# Altium schematic symbol library MA720.SchLib: 1 symbol
Pins are listed as number, name and electrical type; pins without a type are passive.

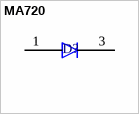
[diagram p0: symbol MA720]

## MA720
designator D?
MF: Taiwan Semiconductor; MP: BAS21W RVG; Price: None; Value: *; Check_prices: https://www.snapeda.com/parts/BAS21W%20RVG/Taiwan+Semiconductor/view-part/?ref=eda; Purchase-URL: https://pricing.snapeda.com/search/part/BAS21W RVG/?ref=eda; Package: SOT-323 Taiwan Semiconductor; SnapEDA_Link: https://www.snapeda.com/parts/BAS21W%20RVG/Taiwan+Semiconductor/view-part/?ref=snap; Availability: In Stock
footprint DIO_BAS21W_RVG
pins: 1 A, 3 C